# Altium footprint library SOT-223.PcbLib: 1 footprints
Each footprint in its own frame and in the unit in brackets; x right, y up, seen from the top. Pads: shape width x height; smd on the part's side, far side on the other; paste and mask are expansions set on the pad; w line width, h text height; cw(c..) or ccw(c..) is an arc to the next point about the centre after c.
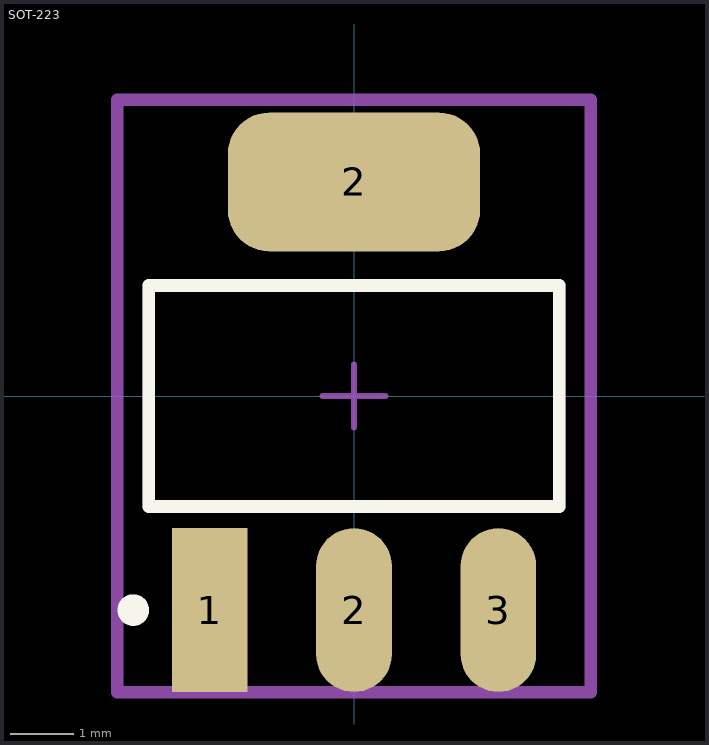
[diagram p0: the footprint, top view; thin cyan lines are the x and y axes]

## SOT-223 [mm]
pads (4):
  rect 1.2x2.6 smd paste+0 mask+0: 1(-2.29,-3.395)
  rrect100% 1.2x2.6 smd paste+0 mask+0: 2(0,-3.395) 3(2.29,-3.395)
  rrect59% 4x2.2 smd paste+0 mask+0: 2(0,3.395)
Top Overlay:
  circle w0.25: c-3.5,-3.395 r0.125
  lines w0.2: -3.253,-1.753 -3.253,1.753 3.253,1.753 3.253,-1.753 -3.253,-1.753
Top Assembly:
  lines w0.2: -3.752,-4.697 -3.752,4.697 3.752,4.697 3.752,-4.697 -3.752,-4.697
  text ".Designator" at -0.188,0 h1
Top 3D Body:
  lines w0.2: -3.253,-1.753 -3.253,1.753 3.253,1.753 3.253,-1.753 -3.253,-1.753
Top Courtyard:
  lines w0.2: -3.752,-4.697 -3.752,4.697 3.752,4.697 3.752,-4.697 -3.752,-4.697
Top Component Center:
  lines w0.1: -0.5,0 0.5,0 ; 0,-0.5 0,0.5
3D body "IC_Advanced_Monolithic_Systems_AMS1117-3_3_eec.STEP": height 0.25, standoff 0, extent -3.752,-4.697 3.752,4.697